# Altium footprint library pth-capacitor.PcbLib: 9 footprints
Each footprint in its own frame and in the unit in brackets; x right, y up, seen from the top. Pads: shape width x height; smd on the part's side, far side on the other; paste and mask are expansions set on the pad; w line width, h text height; cw(c..) or ccw(c..) is an arc to the next point about the centre after c.
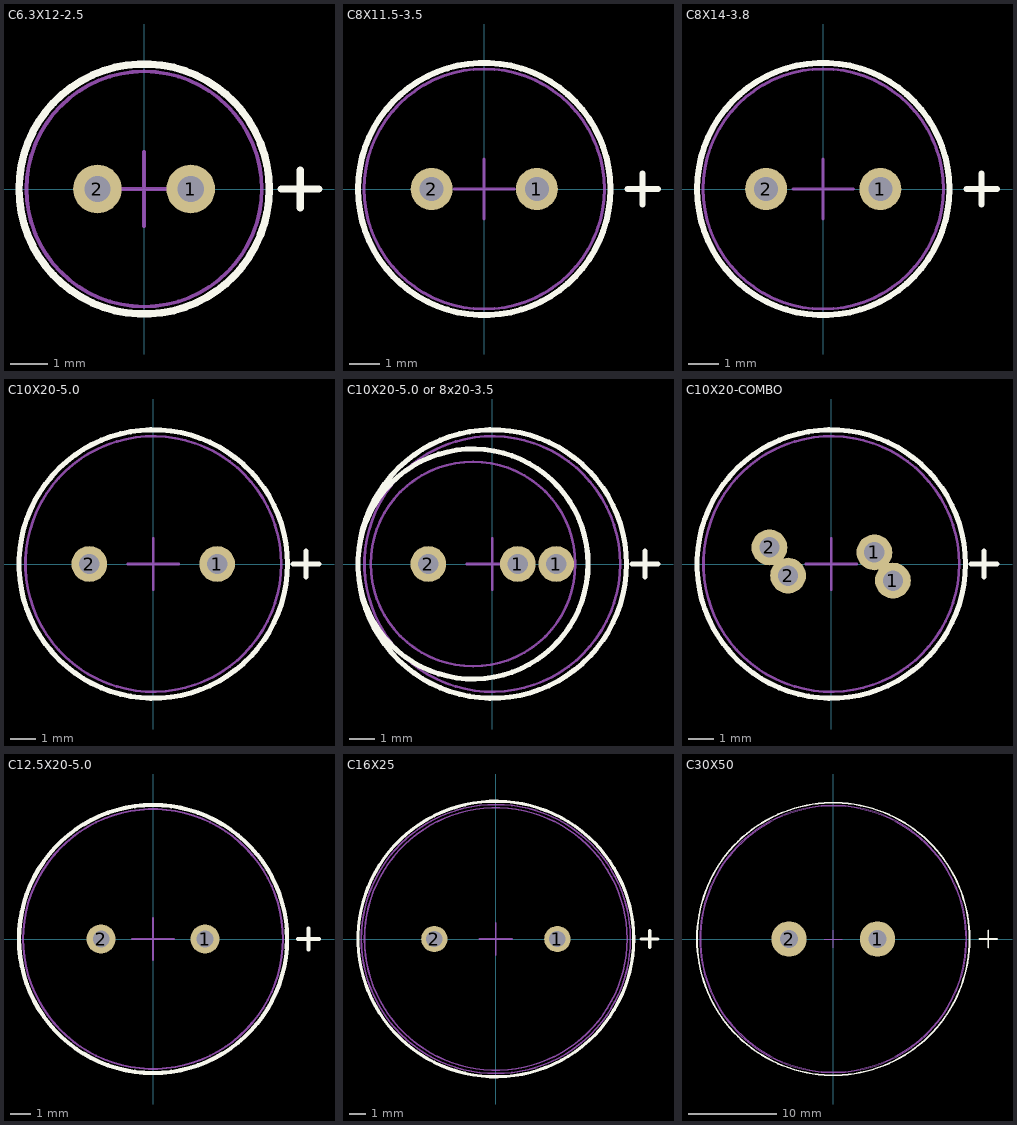
[diagram p0: the footprints below, top view; thin cyan lines are the x and y axes]

## C6.3X12-2.5 [mm] "CAP ALUM RADIAL 6.3x12 2.5 mm"
height 12
pads (2):
  round 1.3 hole 0.7: 1(1.25,0) 2(-1.25,0)
Top Overlay:
  circle w0.2: c0,0 r3.35
  lines w0.2: 3.667,0 4.683,0 ; 4.175,-0.508 4.175,0.508
Mechanical 13:
  circle w0.1: c0,0 r3.15
  lines w0.1: -1,0 1,0 ; 0,-1 0,1
Mechanical 15:
  circle w0.1: c0,0 r3.15
  text ".Designator" at -1.869,-2.195 h0.5
3D body "User Library-Cap-EL(6_3x12-2_5).step": height 12, standoff -3.2, extent -3.153,-3.144 3.149,3.143

## C8X11.5-3.5 [mm] "CAP ALUM RADIAL 8x11.5 3.5 mm"
height 11.5
pads (2):
  round 1.4 hole 0.8: 1(1.75,0) 2(-1.75,0)
Top Overlay:
  circle w0.2: c0,0 r4.2
  lines w0.2: 4.767,0 5.783,0 ; 5.275,-0.508 5.275,0.508
Mechanical 13:
  circle w0.1: c0,0 r4
  lines w0.1: -1,0 1,0 ; 0,-1 0,1
Mechanical 15:
  circle w0.1: c0,0 r4
  text ".Designator" at -1.869,-2.195 h0.5
3D body "User Library-Cap-EL(8x11_5-3_5).STEP": height 11.5, standoff -3.3, extent -4.003,-3.991 3.999,3.991

## C8X14-3.8 [mm] "CAP ALUM RADIAL 8x14 3.8 Pitch"
height 14
pads (2):
  round 1.4 hole 0.8: 1(1.9,0) 2(-1.9,0)
Top Overlay:
  circle w0.2: c0,0 r4.2
  lines w0.2: 4.767,0 5.783,0 ; 5.275,-0.508 5.275,0.508
Mechanical 13:
  circle w0.1: c0,0 r4
  lines w0.1: -1,0 1,0 ; 0,-1 0,1
Mechanical 15:
  circle w0.1: c0,0 r4
  text ".Designator" at -1.869,-2.195 h0.5
3D body "User Library-CE_R150_D320_H570.STEP": height 14.6, standoff -2.7, extent -4.1,-4.1 4.1,4.1

## C10X20-5.0 [mm] "CAP ALUM RADIAL 10x20 5.0 Pitch"
height 20
pads (2):
  round 1.4 hole 0.8: 1(2.5,0) 2(-2.5,0)
Top Overlay:
  circle w0.2: c0,0 r5.25
  lines w0.2: 5.467,0 6.483,0 ; 5.975,-0.508 5.975,0.508
Mechanical 13:
  circle w0.1: c0,0 r5
  lines w0.1: -1,0 1,0 ; 0,-1 0,1
Mechanical 15:
  circle w0.1: c0,0 r5
  text ".Designator" at -1.869,-2.195 h0.5
3D body "User Library-CE_R200_D400_H800.step": height 20.52, standoff -2.7, extent -5.08,-5.067 5.08,5.067

## C10X20-5.0 or 8x20-3.5 [mm] "CAP ALUM RADIAL 10x20 5.0 or 8x20 0.35"
height 20
pads (3):
  round 1.4 hole 0.8: 1(1,0) 1(2.5,0) 2(-2.5,0)
Top Overlay:
  circle w0.2: c-0.75,0 r4.5
  circle w0.2: c0,0 r5.25
  lines w0.2: 5.467,0 6.483,0 ; 5.975,-0.508 5.975,0.508
Mechanical 13:
  circle w0.1: c-0.75,0 r4
  circle w0.1: c0,0 r5
  lines w0.1: -1,0 1,0 ; 0,-1 0,1
Mechanical 15:
  circle w0.1: c0,0 r5
  text ".Designator" at -1.869,-2.195 h0.5
3D body "User Library-CE_R200_D400_H800.step": height 20.52, standoff -2.7, extent -5.08,-5.067 5.08,5.067

## C10X20-COMBO [mm] "CAP ALUM RADIAL 10x20 3.5/5.0 Pitch"
height 20
pads (4):
  round 1.4 hole 0.8: 1(1.69,0.453) 1(2.415,-0.647) 2(-2.415,0.647) 2(-1.69,-0.453)
Top Overlay:
  circle w0.2: c0,0 r5.25
  lines w0.2: 5.467,0 6.483,0 ; 5.975,-0.508 5.975,0.508
Mechanical 13:
  circle w0.1: c0,0 r5
  lines w0.1: -1,0 1,0 ; 0,-1 0,1
Mechanical 15:
  circle w0.1: c0,0 r5
  text ".Designator" at -1.869,-2.195 h0.5
3D body "User Library-CE_R200_D400_H800.step": height 20.52, standoff -2.7, extent -6.219,-6.209 6.218,6.209

## C12.5X20-5.0 [mm] "CAP ALUM RADIAL 12.5x20 5.0 Pitch"
height 20
pads (2):
  round 1.4 hole 0.8: 1(2.5,0) 2(-2.5,0)
Top Overlay:
  circle w0.2: c0,0 r6.45
  lines w0.2: 6.967,0 7.983,0 ; 7.475,-0.508 7.475,0.508
Mechanical 13:
  circle w0.1: c0,0 r6.25
  lines w0.1: -1,0 1,0 ; 0,-1 0,1
Mechanical 15:
  circle w0.1: c0,0 r6.25
  text ".Designator" at -1.869,-2.195 h0.5
3D body "User Library-CapAluRadial_D125H200.STEP": height 22.2, standoff -2.8, extent -6.444,-6.48 6.5,6.48

## C16X25 [mm] "CAP ALUM RADIAL 16x25"
height 25
pads (2):
  round 1.6 hole 1: 1(3.75,0) 2(-3.75,0)
Top Overlay:
  circle w0.2: c0,0 r8.4
  lines w0.2: 8.867,0 9.883,0 ; 9.375,-0.508 9.375,0.508
Mechanical 13:
  circle w0.1: c0,0 r8
  lines w0.1: -1,0 1,0 ; 0,-1 0,1
Mechanical 15:
  circle w0.1: c0,0 r8.2
  text ".Designator" at -1.869,-2.195 h0.5
3D body "User Library-CE_R300_D650_H1000.STEP": height 25.6, standoff -3.3, extent -8.25,-8.231 8.233,8.23

## C30X50 [mm] "CAP ALUM RADIAL 30x50"
height 50
pads (2):
  round 4 hole 2: 1(5,0) 2(-5,0)
Top Overlay:
  circle w0.2: c0,0 r15.4
  lines w0.2: 16.5,0 18.5,0 ; 17.5,-1 17.5,1
Mechanical 13:
  circle w0.1: c0,0 r15
  lines w0.1: -1,0 1,0 ; 0,-1 0,1
Mechanical 15:
  circle w0.1: c0,0 r15.1
  text ".Designator" at -1.869,-2.195 h0.8
3D body "User Library-Assy_CE_R400_D1200_H2000.STEP": height 51, standoff -6.69, extent -15.24,-15.24 15.24,15.239